# EAGLE library part 561IE11 (library 561ie11)
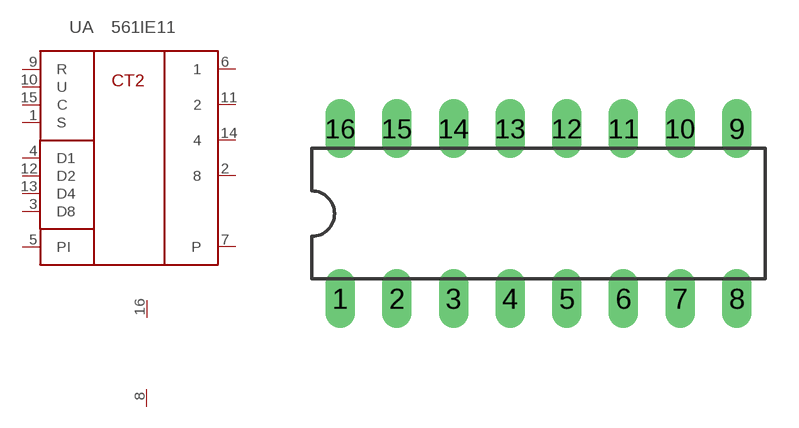
[diagram p0: symbol with the pads of DIL16; footprint DIL16]

Designator prefix -; gates A=561IE11 P=P

## 561IE11  [DIL16]
1  A:S  in
2  A:8  out
3  A:D8  in
4  A:D1  in
5  A:PI  in
6  A:1  out
7  A:P  out
8  P:GND  pwr
9  A:R  in
10  A:U  in
11  A:2  out
12  A:D2  in
13  A:D4  in
14  A:4  out
15  A:C  in
16  P:VCC  pwr

## Footprint DIL16 (pad centres in mm)
Dual In Line Package
drill 0.813 long: 1 -8.89,-3.81; 2 -6.35,-3.81; 3 -3.81,-3.81; 4 -1.27,-3.81; 5 1.27,-3.81; 6 3.81,-3.81; 7 6.35,-3.81; 8 8.89,-3.81; 9 8.89,3.81; 10 6.35,3.81; 11 3.81,3.81; 12 1.27,3.81; 13 -1.27,3.81; 14 -3.81,3.81; 15 -6.35,3.81; 16 -8.89,3.81